# EAGLE library part MB_SPI (library lieven)
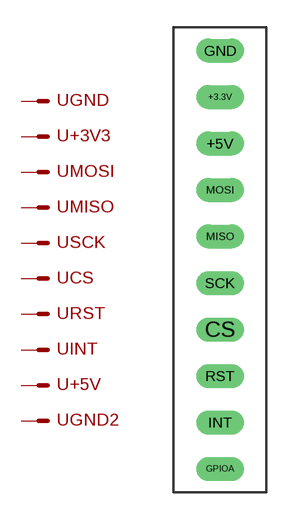
[diagram p12: symbol with the pads of MB_SPI; footprint MB_SPI]

Designator prefix -; gates GND=M +3V3=M MOSI=M MISO=M SCK=M CS=M RST=M INT=M +5V=M GND2=M

## MB_SPI  [MB_SPI]
+3.3V  +3V3:S  pas
+5V  +5V:S  pas
CS  CS:S  pas
GND  GND:S  pas
GPIOA  GND2:S  pas
INT  INT:S  pas
MISO  MISO:S  pas
MOSI  MOSI:S  pas
RST  RST:S  pas
SCK  SCK:S  pas

## Footprint MB_SPI (pad centres in mm)
drill 0.8 long: +3.3V 0,10.16; +5V 0,7.62; CS 0,-2.54; GND 0,12.7; GPIOA 0,-10.16; INT 0,-7.62; MISO 0,2.54; MOSI 0,5.08; RST 0,-5.08; SCK 0,0